# EAGLE library part XCV1000ES_BG560 (library xilinx-xcv)
xcv1000es_bg560 edit this description Auto generated by make-symbol-device-package-bsdl.ulp Rev. 26 Source: xcv1000es_bg560.bsd
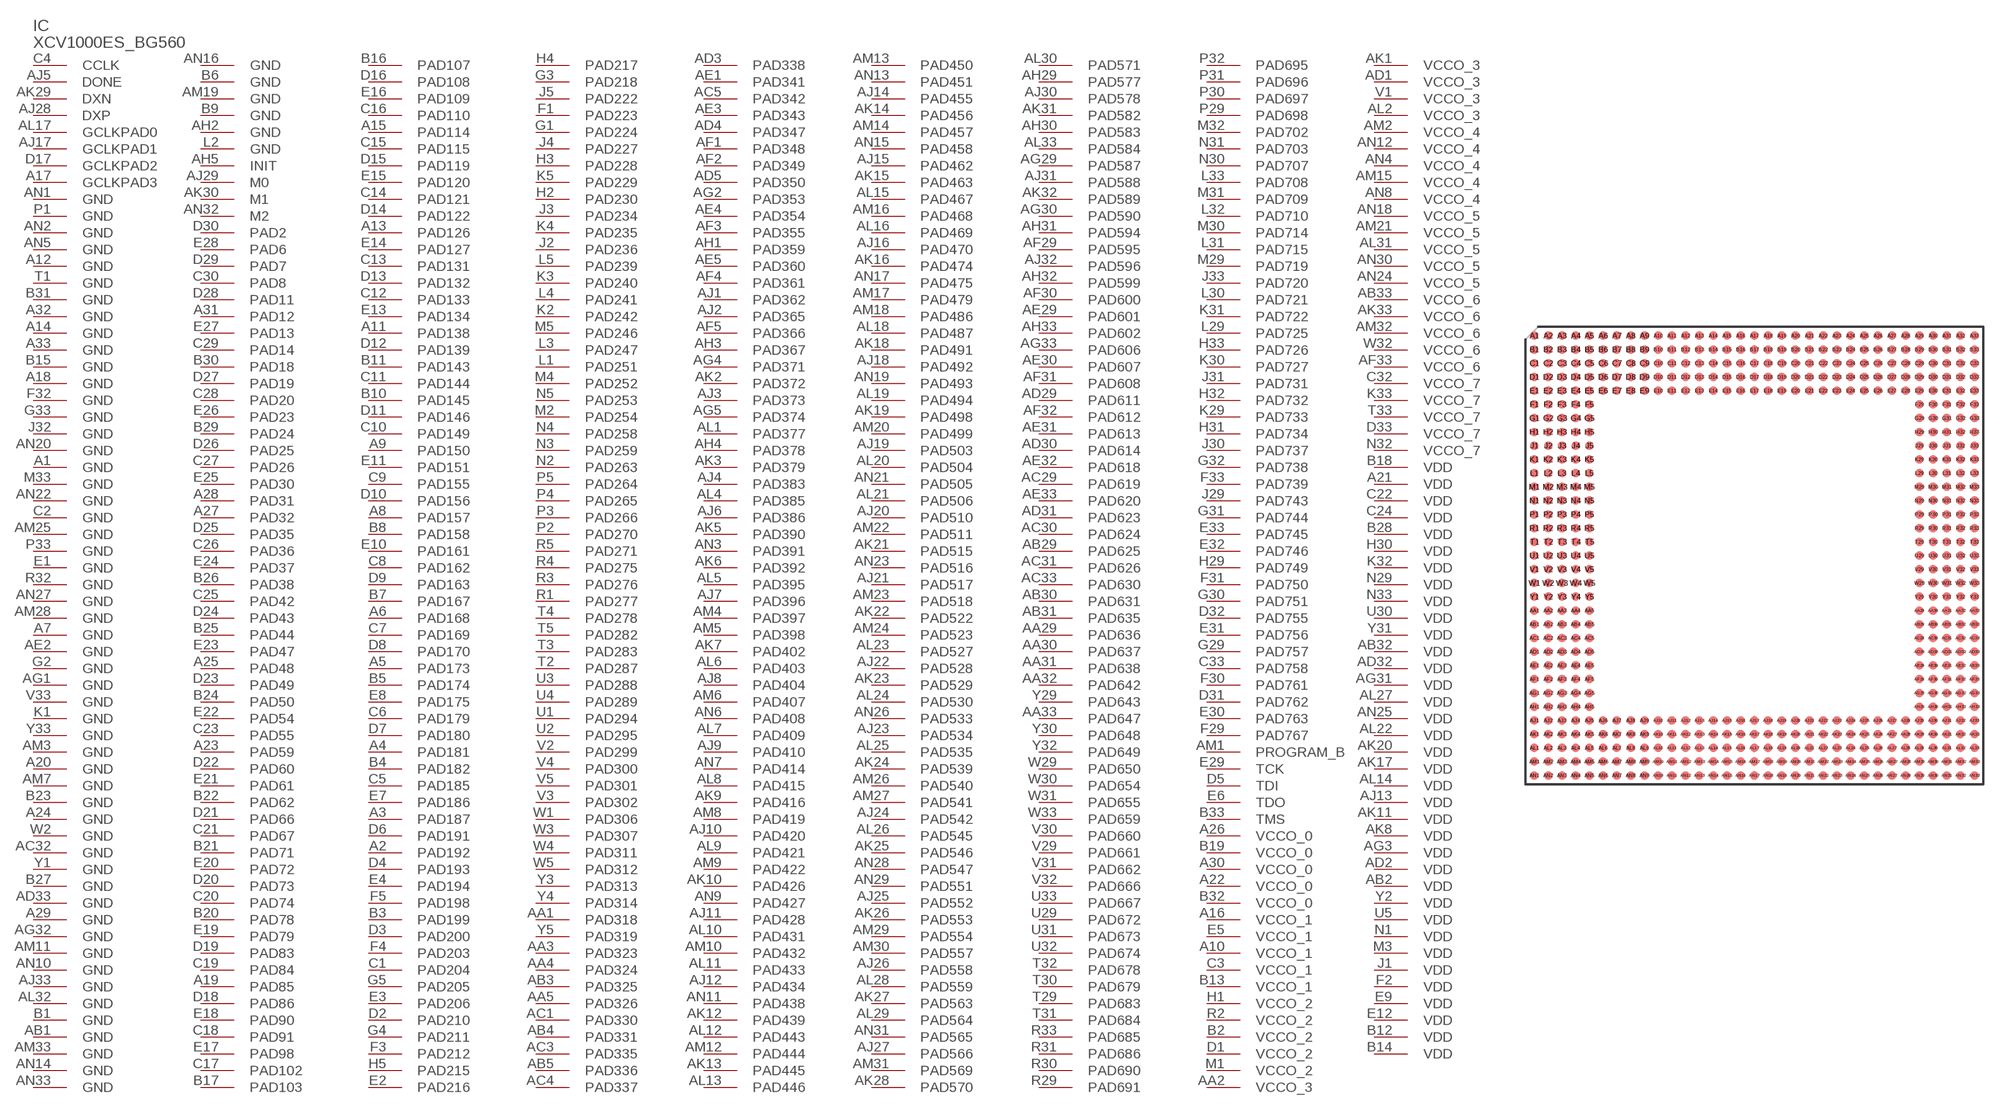
[diagram p17: symbol with the pads of BG560; footprint BG560]

Designator prefix IC

## XCV1000ES_BG560 (OC_FARNELL: unknown; OC_NEWARK: unknown)  [BG560]
A1  GND  pwr
A2  PAD192
A3  PAD187
A4  PAD181
A5  PAD173
A6  PAD168
A7  GND  pwr
A8  PAD157
A9  PAD150
A10  VCCO_1  pwr
A11  PAD138
A12  GND  pwr
A13  PAD126
A14  GND  pwr
A15  PAD114
A16  VCCO_1  pwr
A17  GCLKPAD3  in
A18  GND  pwr
A19  PAD85
A20  GND  pwr
A21  VDD  pwr
A22  VCCO_0  pwr
A23  PAD59
A24  GND  pwr
A25  PAD48
A26  VCCO_0  pwr
A27  PAD32
A28  PAD31
A29  GND  pwr
A30  VCCO_0  pwr
A31  PAD12
A32  GND  pwr
A33  GND  pwr
AA1  PAD318
AA2  VCCO_3  pwr
AA3  PAD323
AA4  PAD324
AA5  PAD326
AA29  PAD636
AA30  PAD637
AA31  PAD638
AA32  PAD642
AA33  PAD647
AB1  GND  pwr
AB2  VDD  pwr
AB3  PAD325
AB4  PAD331
AB5  PAD336
AB29  PAD625
AB30  PAD631
AB31  PAD635
AB32  VDD  pwr
AB33  VCCO_6  pwr
AC1  PAD330
AC3  PAD335
AC4  PAD337
AC5  PAD342
AC29  PAD619
AC30  PAD624
AC31  PAD626
AC32  GND  pwr
AC33  PAD630
AD1  VCCO_3  pwr
AD2  VDD  pwr
AD3  PAD338
AD4  PAD347
AD5  PAD350
AD29  PAD611
AD30  PAD614
AD31  PAD623
AD32  VDD  pwr
AD33  GND  pwr
AE1  PAD341
AE2  GND  pwr
AE3  PAD343
AE4  PAD354
AE5  PAD360
AE29  PAD601
AE30  PAD607
AE31  PAD613
AE32  PAD618
AE33  PAD620
AF1  PAD348
AF2  PAD349
AF3  PAD355
AF4  PAD361
AF5  PAD366
AF29  PAD595
AF30  PAD600
AF31  PAD608
AF32  PAD612
AF33  VCCO_6  pwr
AG1  GND  pwr
AG2  PAD353
AG3  VDD  pwr
AG4  PAD371
AG5  PAD374
AG29  PAD587
AG30  PAD590
AG31  VDD  pwr
AG32  GND  pwr
AG33  PAD606
AH1  PAD359
AH2  GND  pwr
AH3  PAD367
AH4  PAD378
AH5  INIT
AH29  PAD577
AH30  PAD583
AH31  PAD594
AH32  PAD599
AH33  PAD602
AJ1  PAD362
AJ2  PAD365
AJ3  PAD373
AJ4  PAD383
AJ5  DONE
AJ6  PAD386
AJ7  PAD396
AJ8  PAD404
AJ9  PAD410
AJ10  PAD420
AJ11  PAD428
AJ12  PAD434
AJ13  VDD  pwr
AJ14  PAD455
AJ15  PAD462
AJ16  PAD470
AJ17  GCLKPAD1  in
AJ18  PAD492
AJ19  PAD503
AJ20  PAD510
AJ21  PAD517
AJ22  PAD528
AJ23  PAD534
AJ24  PAD542
AJ25  PAD552
AJ26  PAD558
AJ27  PAD566
AJ28  DXP  pas
AJ29  M0  in
AJ30  PAD578
AJ31  PAD588
AJ32  PAD596
AJ33  GND  pwr
AK1  VCCO_3  pwr
AK2  PAD372
AK3  PAD379
AK5  PAD390
AK6  PAD392
AK7  PAD402
AK8  VDD  pwr
AK9  PAD416
AK10  PAD426
AK11  VDD  pwr
AK12  PAD439
AK13  PAD445
AK14  PAD456
AK15  PAD463
AK16  PAD474
AK17  VDD  pwr
AK18  PAD491
AK19  PAD498
AK20  VDD  pwr
AK21  PAD515
AK22  PAD522
AK23  PAD529
AK24  PAD539
AK25  PAD546
AK26  PAD553
AK27  PAD563
AK28  PAD570
AK29  DXN  pas
AK30  M1  in
AK31  PAD582
AK32  PAD589
AK33  VCCO_6  pwr
AL1  PAD377
AL2  VCCO_3  pwr
AL4  PAD385
AL5  PAD395
AL6  PAD403
AL7  PAD409
AL8  PAD415
AL9  PAD421
AL10  PAD431
AL11  PAD433
AL12  PAD443
AL13  PAD446
AL14  VDD  pwr
AL15  PAD467
AL16  PAD469
AL17  GCLKPAD0  in
AL18  PAD487
AL19  PAD494
AL20  PAD504
AL21  PAD506
AL22  VDD  pwr
AL23  PAD527
AL24  PAD530
AL25  PAD535
AL26  PAD545
AL27  VDD  pwr
AL28  PAD559
AL29  PAD564
AL30  PAD571
AL31  VCCO_5  pwr
AL32  GND  pwr
AL33  PAD584
AM1  PROGRAM_B  in
AM2  VCCO_4  pwr
AM3  GND  pwr
AM4  PAD397
AM5  PAD398
AM6  PAD407
AM7  GND  pwr
AM8  PAD419
AM9  PAD422
AM10  PAD432
AM11  GND  pwr
AM12  PAD444
AM13  PAD450
AM14  PAD457
AM15  VCCO_4  pwr
AM16  PAD468
AM17  PAD479
AM18  PAD486
AM19  GND  pwr
AM20  PAD499
AM21  VCCO_5  pwr
AM22  PAD511
AM23  PAD518
AM24  PAD523
AM25  GND  pwr
AM26  PAD540
AM27  PAD541
AM28  GND  pwr
AM29  PAD554
AM30  PAD557
AM31  PAD569
AM32  VCCO_6  pwr
AM33  GND  pwr
AN1  GND  pwr
AN2  GND  pwr
AN3  PAD391
AN4  VCCO_4  pwr
AN5  GND  pwr
AN6  PAD408
AN7  PAD414
AN8  VCCO_4  pwr
AN9  PAD427
AN10  GND  pwr
AN11  PAD438
AN12  VCCO_4  pwr
AN13  PAD451
AN14  GND  pwr
AN15  PAD458
AN16  GND  pwr
AN17  PAD475
AN18  VCCO_5  pwr
AN19  PAD493
AN20  GND  pwr
AN21  PAD505
AN22  GND  pwr
AN23  PAD516
AN24  VCCO_5  pwr
AN25  VDD  pwr
AN26  PAD533
AN27  GND  pwr
AN28  PAD547
AN29  PAD551
AN30  VCCO_5  pwr
AN31  PAD565
AN32  M2  in
AN33  GND  pwr
B1  GND  pwr
B2  VCCO_2  pwr
B3  PAD199
B4  PAD182
B5  PAD174
B6  GND  pwr
B7  PAD167
B8  PAD158
B9  GND  pwr
B10  PAD145
B11  PAD143
B12  VDD  pwr
B13  VCCO_1  pwr
B14  VDD  pwr
B15  GND  pwr
B16  PAD107
B17  PAD103
B18  VDD  pwr
B19  VCCO_0  pwr
B20  PAD78
B21  PAD71
B22  PAD62
B23  GND  pwr
B24  PAD50
B25  PAD44
B26  PAD38
B27  GND  pwr
B28  VDD  pwr
B29  PAD24
B30  PAD18
B31  GND  pwr
B32  VCCO_0  pwr
B33  TMS  in
C1  PAD204
C2  GND  pwr
C3  VCCO_1  pwr
C4  CCLK
C5  PAD185
C6  PAD179
C7  PAD169
C8  PAD162
C9  PAD155
C10  PAD149
C11  PAD144
C12  PAD133
C13  PAD131
C14  PAD121
C15  PAD115
C16  PAD110
C17  PAD102
C18  PAD91
C19  PAD84
C20  PAD74
C21  PAD67
C22  VDD  pwr
C23  PAD55
C24  VDD  pwr
C25  PAD42
C26  PAD36
C27  PAD26
C28  PAD20
C29  PAD14
C30  PAD8
C32  VCCO_7  pwr
C33  PAD758
D1  VCCO_2  pwr
D2  PAD210
D3  PAD200
D4  PAD193
D5  TDI  in
D6  PAD191
D7  PAD180
D8  PAD170
D9  PAD163
D10  PAD156
D11  PAD146
D12  PAD139
D13  PAD132
D14  PAD122
D15  PAD119
D16  PAD108
D17  GCLKPAD2  in
D18  PAD86
D19  PAD83
D20  PAD73
D21  PAD66
D22  PAD60
D23  PAD49
D24  PAD43
D25  PAD35
D26  PAD25
D27  PAD19
D28  PAD11
D29  PAD7
D30  PAD2
D31  PAD762
D32  PAD755
D33  VCCO_7  pwr
E1  GND  pwr
E2  PAD216
E3  PAD206
E4  PAD194
E5  VCCO_1  pwr
E6  TDO  out
E7  PAD186
E8  PAD175
E9  VDD  pwr
E10  PAD161
E11  PAD151
E12  VDD  pwr
E13  PAD134
E14  PAD127
E15  PAD120
E16  PAD109
E17  PAD98
E18  PAD90
E19  PAD79
E20  PAD72
E21  PAD61
E22  PAD54
E23  PAD47
E24  PAD37
E25  PAD30
E26  PAD23
E27  PAD13
E28  PAD6
E29  TCK  in
E30  PAD763
E31  PAD756
E32  PAD746
E33  PAD745
F1  PAD223
F2  VDD  pwr
F3  PAD212
F4  PAD203
F5  PAD198
F29  PAD767
F30  PAD761
F31  PAD750
F32  GND  pwr
F33  PAD739
G1  PAD224
G2  GND  pwr
G3  PAD218
G4  PAD211
G5  PAD205
G29  PAD757
G30  PAD751
G31  PAD744
G32  PAD738
G33  GND  pwr
H1  VCCO_2  pwr
H2  PAD230
H3  PAD228
H4  PAD217
H5  PAD215
H29  PAD749
H30  VDD  pwr
H31  PAD734
H32  PAD732
H33  PAD726
J1  VDD  pwr
J2  PAD236
J3  PAD234
J4  PAD227
J5  PAD222
J29  PAD743
J30  PAD737
J31  PAD731
J32  GND  pwr
J33  PAD720
K1  GND  pwr
K2  PAD242
K3  PAD240
K4  PAD235
K5  PAD229
K29  PAD733
K30  PAD727
K31  PAD722
K32  VDD  pwr
K33  VCCO_7  pwr
L1  PAD251
L2  GND  pwr
L3  PAD247
L4  PAD241
L5  PAD239
L29  PAD725
L30  PAD721
L31  PAD715
L32  PAD710
L33  PAD708
M1  VCCO_2  pwr
M2  PAD254
M3  VDD  pwr
M4  PAD252
M5  PAD246
M29  PAD719
M30  PAD714
M31  PAD709
M32  PAD702
M33  GND  pwr
N1  VDD  pwr
N2  PAD263
N3  PAD259
N4  PAD258
N5  PAD253
N29  VDD  pwr
N30  PAD707
N31  PAD703
N32  VCCO_7  pwr
N33  VDD  pwr
P1  GND  pwr
P2  PAD270
P3  PAD266
P4  PAD265
P5  PAD264
P29  PAD698
P30  PAD697
P31  PAD696
P32  PAD695
P33  GND  pwr
R1  PAD277
R2  VCCO_2  pwr
R3  PAD276
R4  PAD275
R5  PAD271
R29  PAD691
R30  PAD690
R31  PAD686
R32  GND  pwr
R33  PAD685
T1  GND  pwr
T2  PAD287
T3  PAD283
T4  PAD278
T5  PAD282
T29  PAD683
T30  PAD679
T31  PAD684
T32  PAD678
T33  VCCO_7  pwr
U1  PAD294
U2  PAD295
U3  PAD288
U4  PAD289
U5  VDD  pwr
U29  PAD672
U30  VDD  pwr
U31  PAD673
U32  PAD674
U33  PAD667
V1  VCCO_3  pwr
V2  PAD299
V3  PAD302
V4  PAD300
V5  PAD301
V29  PAD661
V30  PAD660
V31  PAD662
V32  PAD666
V33  GND  pwr
W1  PAD306
W2  GND  pwr
W3  PAD307
W4  PAD311
W5  PAD312
W29  PAD650
W30  PAD654
W31  PAD655
W32  VCCO_6  pwr
W33  PAD659
Y1  GND  pwr
Y2  VDD  pwr
Y3  PAD313
Y4  PAD314
Y5  PAD319
Y29  PAD643
Y30  PAD648
Y31  VDD  pwr
Y32  PAD649
Y33  GND  pwr

## Footprint BG560 (pad centres in mm)
Metal BGA (BG560) Auto generated by make-symbol-device-package-bsdl.ulp Rev. 26 Source: xcv1000_bg560_1532.bsd; bg560.pdf
smd 0.8 x 0.8: A1 -20.32,20.32; A2 -19.05,20.32; A3 -17.78,20.32; A4 -16.51,20.32; A5 -15.24,20.32; A6 -13.97,20.32; A7 -12.7,20.32; A8 -11.43,20.32; A9 -10.16,20.32; A10 -8.89,20.32; A11 -7.62,20.32; A12 -6.35,20.32; A13 -5.08,20.32; A14 -3.81,20.32; A15 -2.54,20.32; A16 -1.27,20.32; A17 0,20.32; A18 1.27,20.32; A19 2.54,20.32; A20 3.81,20.32; A21 5.08,20.32; A22 6.35,20.32; A23 7.62,20.32; A24 8.89,20.32; A25 10.16,20.32; A26 11.43,20.32; A27 12.7,20.32; A28 13.97,20.32; A29 15.24,20.32; A30 16.51,20.32; A31 17.78,20.32; A32 19.05,20.32; A33 20.32,20.32; AA1 -20.32,-5.08; AA2 -19.05,-5.08; AA3 -17.78,-5.08; AA4 -16.51,-5.08; AA5 -15.24,-5.08; AA29 15.24,-5.08; AA30 16.51,-5.08; AA31 17.78,-5.08; AA32 19.05,-5.08; AA33 20.32,-5.08; AB1 -20.32,-6.35; AB2 -19.05,-6.35; AB3 -17.78,-6.35; AB4 -16.51,-6.35; AB5 -15.24,-6.35; AB29 15.24,-6.35; AB30 16.51,-6.35; AB31 17.78,-6.35; AB32 19.05,-6.35; AB33 20.32,-6.35; AC1 -20.32,-7.62; AC2 -19.05,-7.62; AC3 -17.78,-7.62; AC4 -16.51,-7.62; AC5 -15.24,-7.62; AC29 15.24,-7.62; AC30 16.51,-7.62; AC31 17.78,-7.62; AC32 19.05,-7.62; AC33 20.32,-7.62; AD1 -20.32,-8.89; AD2 -19.05,-8.89; AD3 -17.78,-8.89; AD4 -16.51,-8.89; AD5 -15.24,-8.89; AD29 15.24,-8.89; AD30 16.51,-8.89; AD31 17.78,-8.89; AD32 19.05,-8.89; AD33 20.32,-8.89; AE1 -20.32,-10.16; AE2 -19.05,-10.16; AE3 -17.78,-10.16; AE4 -16.51,-10.16; AE5 -15.24,-10.16; AE29 15.24,-10.16; AE30 16.51,-10.16; AE31 17.78,-10.16; AE32 19.05,-10.16; AE33 20.32,-10.16; AF1 -20.32,-11.43; AF2 -19.05,-11.43; AF3 -17.78,-11.43; AF4 -16.51,-11.43; AF5 -15.24,-11.43; AF29 15.24,-11.43; AF30 16.51,-11.43; AF31 17.78,-11.43; AF32 19.05,-11.43; AF33 20.32,-11.43; AG1 -20.32,-12.7; AG2 -19.05,-12.7; AG3 -17.78,-12.7; AG4 -16.51,-12.7; AG5 -15.24,-12.7; AG29 15.24,-12.7; AG30 16.51,-12.7; AG31 17.78,-12.7; AG32 19.05,-12.7; AG33 20.32,-12.7; AH1 -20.32,-13.97; AH2 -19.05,-13.97; AH3 -17.78,-13.97; AH4 -16.51,-13.97; AH5 -15.24,-13.97; AH29 15.24,-13.97; AH30 16.51,-13.97; AH31 17.78,-13.97; AH32 19.05,-13.97; AH33 20.32,-13.97; AJ1 -20.32,-15.24; AJ2 -19.05,-15.24; AJ3 -17.78,-15.24; AJ4 -16.51,-15.24; AJ5 -15.24,-15.24; AJ6 -13.97,-15.24; AJ7 -12.7,-15.24; AJ8 -11.43,-15.24; AJ9 -10.16,-15.24; AJ10 -8.89,-15.24; AJ11 -7.62,-15.24; AJ12 -6.35,-15.24; AJ13 -5.08,-15.24; AJ14 -3.81,-15.24; AJ15 -2.54,-15.24; AJ16 -1.27,-15.24; AJ17 0,-15.24; AJ18 1.27,-15.24; AJ19 2.54,-15.24; AJ20 3.81,-15.24; AJ21 5.08,-15.24; AJ22 6.35,-15.24; AJ23 7.62,-15.24; AJ24 8.89,-15.24; AJ25 10.16,-15.24; AJ26 11.43,-15.24; AJ27 12.7,-15.24; AJ28 13.97,-15.24; AJ29 15.24,-15.24; AJ30 16.51,-15.24; AJ31 17.78,-15.24; AJ32 19.05,-15.24; AJ33 20.32,-15.24; AK1 -20.32,-16.51; AK2 -19.05,-16.51; AK3 -17.78,-16.51; AK4 -16.51,-16.51; AK5 -15.24,-16.51; AK6 -13.97,-16.51; AK7 -12.7,-16.51; AK8 -11.43,-16.51; AK9 -10.16,-16.51; AK10 -8.89,-16.51; AK11 -7.62,-16.51; AK12 -6.35,-16.51; AK13 -5.08,-16.51; AK14 -3.81,-16.51; AK15 -2.54,-16.51; AK16 -1.27,-16.51; AK17 0,-16.51; AK18 1.27,-16.51; AK19 2.54,-16.51; AK20 3.81,-16.51; AK21 5.08,-16.51; AK22 6.35,-16.51; AK23 7.62,-16.51; AK24 8.89,-16.51; AK25 10.16,-16.51; AK26 11.43,-16.51; AK27 12.7,-16.51; AK28 13.97,-16.51; AK29 15.24,-16.51; AK30 16.51,-16.51; AK31 17.78,-16.51; AK32 19.05,-16.51; AK33 20.32,-16.51; AL1 -20.32,-17.78; AL2 -19.05,-17.78; AL3 -17.78,-17.78; AL4 -16.51,-17.78; AL5 -15.24,-17.78; AL6 -13.97,-17.78; AL7 -12.7,-17.78; AL8 -11.43,-17.78; AL9 -10.16,-17.78; AL10 -8.89,-17.78; AL11 -7.62,-17.78; AL12 -6.35,-17.78; AL13 -5.08,-17.78; AL14 -3.81,-17.78; AL15 -2.54,-17.78; AL16 -1.27,-17.78; AL17 0,-17.78; AL18 1.27,-17.78; AL19 2.54,-17.78; AL20 3.81,-17.78; AL21 5.08,-17.78; AL22 6.35,-17.78; AL23 7.62,-17.78; AL24 8.89,-17.78; AL25 10.16,-17.78; AL26 11.43,-17.78; AL27 12.7,-17.78; AL28 13.97,-17.78; AL29 15.24,-17.78; AL30 16.51,-17.78; AL31 17.78,-17.78; AL32 19.05,-17.78; AL33 20.32,-17.78; AM1 -20.32,-19.05; AM2 -19.05,-19.05; AM3 -17.78,-19.05; AM4 -16.51,-19.05; AM5 -15.24,-19.05; AM6 -13.97,-19.05; AM7 -12.7,-19.05; AM8 -11.43,-19.05; AM9 -10.16,-19.05; AM10 -8.89,-19.05; AM11 -7.62,-19.05; AM12 -6.35,-19.05; AM13 -5.08,-19.05; AM14 -3.81,-19.05; AM15 -2.54,-19.05; AM16 -1.27,-19.05; AM17 0,-19.05; AM18 1.27,-19.05; AM19 2.54,-19.05; AM20 3.81,-19.05; AM21 5.08,-19.05; AM22 6.35,-19.05; AM23 7.62,-19.05; AM24 8.89,-19.05; AM25 10.16,-19.05; AM26 11.43,-19.05; AM27 12.7,-19.05; AM28 13.97,-19.05; AM29 15.24,-19.05; AM30 16.51,-19.05; AM31 17.78,-19.05; AM32 19.05,-19.05; AM33 20.32,-19.05; AN1 -20.32,-20.32; AN2 -19.05,-20.32; AN3 -17.78,-20.32; AN4 -16.51,-20.32; AN5 -15.24,-20.32; AN6 -13.97,-20.32; AN7 -12.7,-20.32; AN8 -11.43,-20.32; AN9 -10.16,-20.32; AN10 -8.89,-20.32; AN11 -7.62,-20.32; AN12 -6.35,-20.32; AN13 -5.08,-20.32; AN14 -3.81,-20.32; AN15 -2.54,-20.32; AN16 -1.27,-20.32; AN17 0,-20.32; AN18 1.27,-20.32; AN19 2.54,-20.32; AN20 3.81,-20.32; AN21 5.08,-20.32; AN22 6.35,-20.32; AN23 7.62,-20.32; AN24 8.89,-20.32; AN25 10.16,-20.32; AN26 11.43,-20.32; AN27 12.7,-20.32; AN28 13.97,-20.32; AN29 15.24,-20.32; AN30 16.51,-20.32; AN31 17.78,-20.32; AN32 19.05,-20.32; AN33 20.32,-20.32; B1 -20.32,19.05; B2 -19.05,19.05; B3 -17.78,19.05; B4 -16.51,19.05; B5 -15.24,19.05; B6 -13.97,19.05; B7 -12.7,19.05; B8 -11.43,19.05; B9 -10.16,19.05; B10 -8.89,19.05; B11 -7.62,19.05; B12 -6.35,19.05; B13 -5.08,19.05; B14 -3.81,19.05; B15 -2.54,19.05; B16 -1.27,19.05; B17 0,19.05; B18 1.27,19.05; B19 2.54,19.05; B20 3.81,19.05; B21 5.08,19.05; B22 6.35,19.05; B23 7.62,19.05; B24 8.89,19.05; B25 10.16,19.05; B26 11.43,19.05; B27 12.7,19.05; B28 13.97,19.05; B29 15.24,19.05; B30 16.51,19.05; B31 17.78,19.05; B32 19.05,19.05; B33 20.32,19.05; C1 -20.32,17.78; C2 -19.05,17.78; C3 -17.78,17.78; C4 -16.51,17.78; C5 -15.24,17.78; C6 -13.97,17.78; C7 -12.7,17.78; C8 -11.43,17.78; C9 -10.16,17.78; C10 -8.89,17.78; C11 -7.62,17.78; C12 -6.35,17.78; C13 -5.08,17.78; C14 -3.81,17.78; C15 -2.54,17.78; C16 -1.27,17.78; C17 0,17.78; C18 1.27,17.78; C19 2.54,17.78; C20 3.81,17.78; C21 5.08,17.78; C22 6.35,17.78; C23 7.62,17.78; C24 8.89,17.78; C25 10.16,17.78; C26 11.43,17.78; C27 12.7,17.78; C28 13.97,17.78; C29 15.24,17.78; C30 16.51,17.78; C31 17.78,17.78; C32 19.05,17.78; C33 20.32,17.78; D1 -20.32,16.51; D2 -19.05,16.51; D3 -17.78,16.51; D4 -16.51,16.51; D5 -15.24,16.51; D6 -13.97,16.51; D7 -12.7,16.51; D8 -11.43,16.51; D9 -10.16,16.51; D10 -8.89,16.51; D11 -7.62,16.51; D12 -6.35,16.51; D13 -5.08,16.51; D14 -3.81,16.51; D15 -2.54,16.51; D16 -1.27,16.51; D17 0,16.51; D18 1.27,16.51; D19 2.54,16.51; D20 3.81,16.51; D21 5.08,16.51; D22 6.35,16.51; D23 7.62,16.51; D24 8.89,16.51; D25 10.16,16.51; D26 11.43,16.51; D27 12.7,16.51; D28 13.97,16.51; D29 15.24,16.51; D30 16.51,16.51; D31 17.78,16.51; D32 19.05,16.51; D33 20.32,16.51; E1 -20.32,15.24; E2 -19.05,15.24; E3 -17.78,15.24; E4 -16.51,15.24; E5 -15.24,15.24; E6 -13.97,15.24; E7 -12.7,15.24; E8 -11.43,15.24; E9 -10.16,15.24; E10 -8.89,15.24; E11 -7.62,15.24; E12 -6.35,15.24; E13 -5.08,15.24; E14 -3.81,15.24; E15 -2.54,15.24; E16 -1.27,15.24; E17 0,15.24; E18 1.27,15.24; E19 2.54,15.24; E20 3.81,15.24; E21 5.08,15.24; E22 6.35,15.24; E23 7.62,15.24; E24 8.89,15.24; E25 10.16,15.24; E26 11.43,15.24; E27 12.7,15.24; E28 13.97,15.24; E29 15.24,15.24; E30 16.51,15.24; E31 17.78,15.24; E32 19.05,15.24; E33 20.32,15.24; F1 -20.32,13.97; F2 -19.05,13.97; F3 -17.78,13.97; F4 -16.51,13.97; F5 -15.24,13.97; F29 15.24,13.97; F30 16.51,13.97; F31 17.78,13.97; F32 19.05,13.97; F33 20.32,13.97; G1 -20.32,12.7; G2 -19.05,12.7; G3 -17.78,12.7; G4 -16.51,12.7; G5 -15.24,12.7; G29 15.24,12.7; G30 16.51,12.7; G31 17.78,12.7; G32 19.05,12.7; G33 20.32,12.7; H1 -20.32,11.43; H2 -19.05,11.43; H3 -17.78,11.43; H4 -16.51,11.43; H5 -15.24,11.43; H29 15.24,11.43; H30 16.51,11.43; H31 17.78,11.43; H32 19.05,11.43; H33 20.32,11.43; J1 -20.32,10.16; J2 -19.05,10.16; J3 -17.78,10.16; J4 -16.51,10.16; J5 -15.24,10.16; J29 15.24,10.16; J30 16.51,10.16; J31 17.78,10.16; J32 19.05,10.16; J33 20.32,10.16; K1 -20.32,8.89; K2 -19.05,8.89; K3 -17.78,8.89; K4 -16.51,8.89; K5 -15.24,8.89; K29 15.24,8.89; K30 16.51,8.89; K31 17.78,8.89; K32 19.05,8.89; K33 20.32,8.89; L1 -20.32,7.62; L2 -19.05,7.62; L3 -17.78,7.62; L4 -16.51,7.62; L5 -15.24,7.62; L29 15.24,7.62; L30 16.51,7.62; L31 17.78,7.62; L32 19.05,7.62; L33 20.32,7.62; M1 -20.32,6.35; M2 -19.05,6.35; M3 -17.78,6.35; M4 -16.51,6.35; M5 -15.24,6.35; M29 15.24,6.35; M30 16.51,6.35; M31 17.78,6.35; M32 19.05,6.35; M33 20.32,6.35; N1 -20.32,5.08; N2 -19.05,5.08; N3 -17.78,5.08; N4 -16.51,5.08; N5 -15.24,5.08; N29 15.24,5.08; N30 16.51,5.08; N31 17.78,5.08; N32 19.05,5.08; N33 20.32,5.08; P1 -20.32,3.81; P2 -19.05,3.81; P3 -17.78,3.81; P4 -16.51,3.81; P5 -15.24,3.81; P29 15.24,3.81; P30 16.51,3.81; P31 17.78,3.81; P32 19.05,3.81; P33 20.32,3.81; R1 -20.32,2.54; R2 -19.05,2.54; R3 -17.78,2.54; R4 -16.51,2.54; R5 -15.24,2.54; R29 15.24,2.54; R30 16.51,2.54; R31 17.78,2.54; R32 19.05,2.54; R33 20.32,2.54; T1 -20.32,1.27; T2 -19.05,1.27; T3 -17.78,1.27; T4 -16.51,1.27; T5 -15.24,1.27; T29 15.24,1.27; T30 16.51,1.27; T31 17.78,1.27; T32 19.05,1.27; T33 20.32,1.27; U1 -20.32,0; U2 -19.05,0; U3 -17.78,0; U4 -16.51,0; U5 -15.24,0; U29 15.24,0; U30 16.51,0; U31 17.78,0; U32 19.05,0; U33 20.32,0; V1 -20.32,-1.27; V2 -19.05,-1.27; V3 -17.78,-1.27; V4 -16.51,-1.27; V5 -15.24,-1.27; V29 15.24,-1.27; V30 16.51,-1.27; V31 17.78,-1.27; V32 19.05,-1.27; V33 20.32,-1.27; W1 -20.32,-2.54; W2 -19.05,-2.54; W3 -17.78,-2.54; W4 -16.51,-2.54; W5 -15.24,-2.54; W29 15.24,-2.54; W30 16.51,-2.54; W31 17.78,-2.54; W32 19.05,-2.54; W33 20.32,-2.54; Y1 -20.32,-3.81; Y2 -19.05,-3.81; Y3 -17.78,-3.81; Y4 -16.51,-3.81; Y5 -15.24,-3.81; Y29 15.24,-3.81; Y30 16.51,-3.81; Y31 17.78,-3.81; Y32 19.05,-3.81; Y33 20.32,-3.81